# Altium footprint library CAPMP7343X310.PcbLib: 1 footprints
Each footprint in its own frame and in the unit in brackets; x right, y up, seen from the top. Pads: shape width x height; smd on the part's side, far side on the other; paste and mask are expansions set on the pad; w line width, h text height; cw(c..) or ccw(c..) is an arc to the next point about the centre after c.
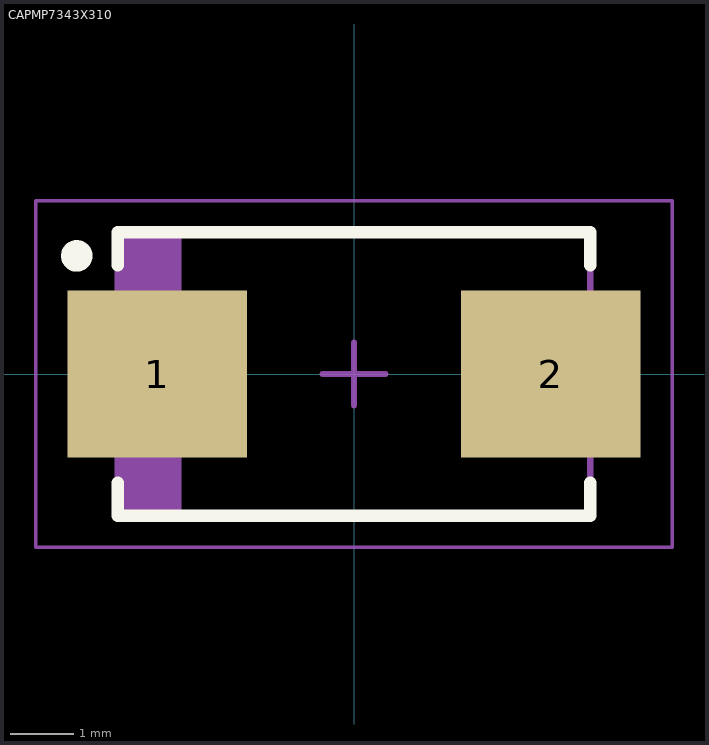
[diagram p0: the footprint, top view; thin cyan lines are the x and y axes]

## CAPMP7343X310 [mm] "Molded Capacitor, 2-Leads, Body 7,30x4,30mm, IPC Low Density 2917"
height 3.1
pads (2):
  rect 2.85x2.65 smd: 1(-3.125,0) 2(3.125,0)
Top Overlay:
  circle w0.25: c-4.4,1.875 r0.125
  lines w0.2: -3.75,-1.725 -3.75,-2.25 3.75,-2.25 3.75,-1.725 ; -3.75,1.725 -3.75,2.25 3.75,2.25 3.75,1.725
3D Body:
  rectangle: -3.75,-2.25 -2.741,2.25
  lines w0.1: -3.75,-2.25 -3.75,2.25 3.75,2.25 3.75,-2.25 -3.75,-2.25
Board:
  lines w0.05: -5.05,-2.75 -5.05,2.75 5.05,2.75 5.05,-2.75 -5.05,-2.75
  lines w0.1: -0.5,0 0.5,0 ; 0,-0.5 0,0.5
3D body "CAPMP7343X31M(TANTALUM-D).step": height 3.1, standoff 0, extent -3.97,-2.25 3.97,2.25